# Altium footprint library Relay.PcbLib: 1 footprints
Each footprint in its own frame and in the unit in brackets; x right, y up, seen from the top. Pads: shape width x height; smd on the part's side, far side on the other; paste and mask are expansions set on the pad; w line width, h text height; cw(c..) or ccw(c..) is an arc to the next point about the centre after c.
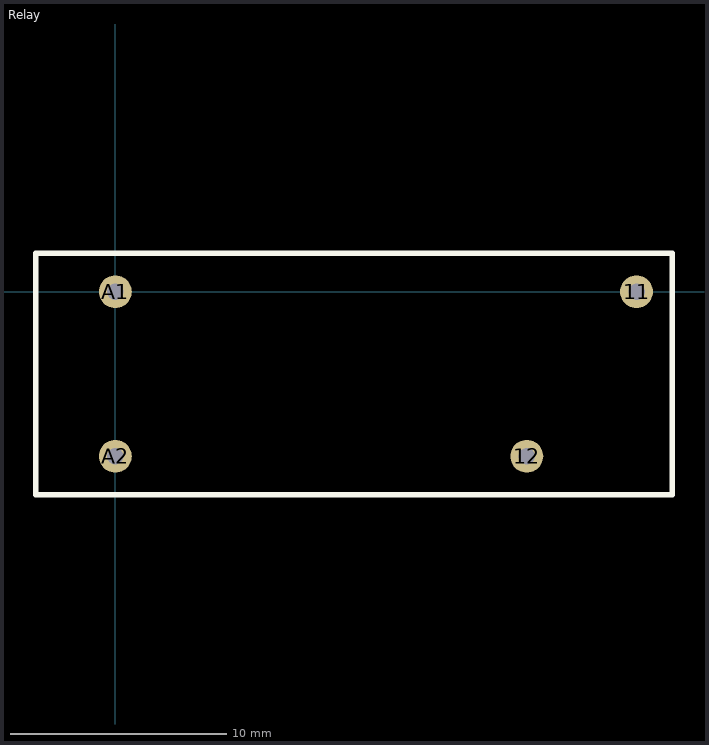
[diagram p0: the footprint, top view; thin cyan lines are the x and y axes]

## Relay [mil]
pads (4):
  round 60 hole 30: 11(950,0) 12(750,-300) A1(0,0) A2(0,-300)
Top Overlay:
  lines w10: -145,-370 1015,-370 1015,70 -145,70 -145,-370
3D body "Relay.STEP": height 484.25, standoff -125.98, extent -125,-348.82 997.05,48.82